# Altium footprint library FJ3461BH.PcbLib: 1 footprints
Each footprint in its own frame and in the unit in brackets; x right, y up, seen from the top. Pads: shape width x height; smd on the part's side, far side on the other; paste and mask are expansions set on the pad; w line width, h text height; cw(c..) or ccw(c..) is an arc to the next point about the centre after c.
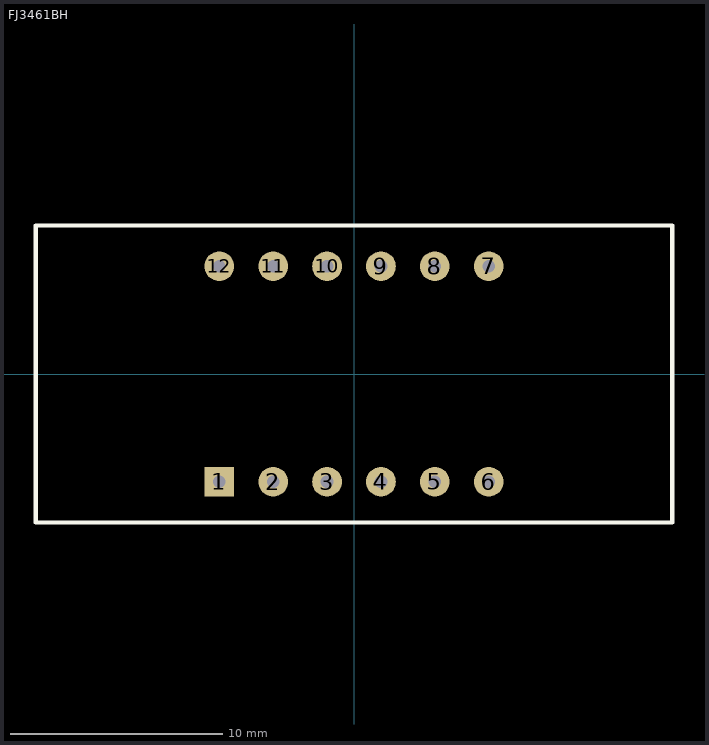
[diagram p0: the footprint, top view; thin cyan lines are the x and y axes]

## FJ3461BH [mm]
pads (12):
  rect 1.4x1.4 hole 0.6: 1(-6.35,-5.08)
  round 1.4 hole 0.6: 2(-3.81,-5.08) 3(-1.27,-5.08) 4(1.27,-5.08) 5(3.81,-5.08) 6(6.35,-5.08) 7(6.35,5.08) 8(3.81,5.08) 9(1.27,5.08) 10(-1.27,5.08) 11(-3.81,5.08) 12(-6.35,5.08)
Top Overlay:
  lines w0.2: -15,-7 -15,7 15,7 15,-7 -15,-7
Top Assembly:
  lines w0.1: -15,-7 15,-7 15,7 -15,7 -15,-7
  text "'.Designator'" at -0.725,-0.3 h0.7
3D body "User Library-3641_Red_jam.step": height 7.1, standoff -5.5, extent -15,-7 15,7